# EAGLE library part ESD5384 (library PP_DigitalIC)
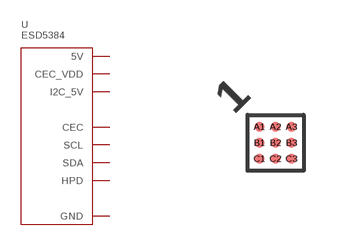
[diagram p32: symbol with the pads of ESD5384_WLCSP-9; footprint ESD5384_WLCSP-9]

Designator prefix U

## ESD5384NCTBG  [ESD5384_WLCSP-9]
A1  5V
A2  CEC
A3  SCL
B1  CEC_VDD
B2  GND
B3  SDA
C1  I2C_5V
C2  GND
C3  HPD

## Footprint ESD5384_WLCSP-9 (pad centres in mm)
smd 0.25 x 0.25: A1 -0.4,0.4; A2 0,0.4; A3 0.4,0.4; B1 -0.4,0; B2 0,0; B3 0.4,0; C1 -0.4,-0.4; C2 0,-0.4; C3 0.4,-0.4